# EAGLE library part TEA2025 (library Audio-Power-amlifier V.2.0)
DUAL OR BRIDGE CONNECTION MODES FEW EXTERNAL COMPONENTS SUPPLY VOLTAGE DOWN TO 3V HIGH CHANNEL SEPARATION VERY LOW SWITCH ON/OFF NOISE MAX GAIN OF 45dB WITH ADJUST EXTERNAL RESISTOR SOFT CLIPPING THERMAL PROTECTION 3V < VCC < 15V P = 2 · 1W, VCC = 6V, RL = 4W P = 2 · 2.3W, VCC = 9V, RL = 4W P = 2 · 0.1W, VCC = 3V, RL = 4W
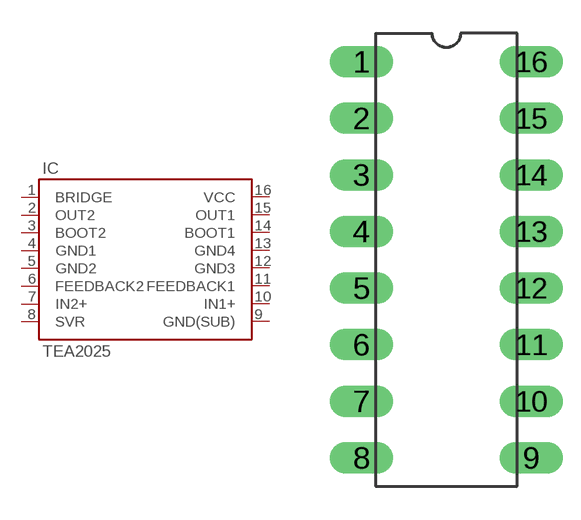
[diagram p69: symbol with the pads of DIL16; footprint DIL16]

Designator prefix IC

## TEA2025  [DIL16]
1  BRIDGE
2  OUT2
3  BOOT2
4  GND1
5  GND2
6  FEEDBACK2
7  IN2+
8  SVR
9  GND(SUB)
10  IN1+
11  FEEDBACK1
12  GND3
13  GND4
14  BOOT1
15  OUT1
16  VCC

## Footprint DIL16 (pad centres in mm)
drill 0.8 pad 1.422 long: 1 -3.81,8.89; 2 -3.81,6.35; 3 -3.81,3.81; 4 -3.81,1.27; 5 -3.81,-1.27; 6 -3.81,-3.81; 7 -3.81,-6.35; 8 -3.81,-8.89; 9 3.81,-8.89; 10 3.81,-6.35; 11 3.81,-3.81; 12 3.81,-1.27; 13 3.81,1.27; 14 3.81,3.81; 15 3.81,6.35; 16 3.81,8.89